# Altium schematic symbol library 零散元件库.SCHLIB: 23 symbols
Pins are listed as number, name and electrical type; pins without a type are passive.

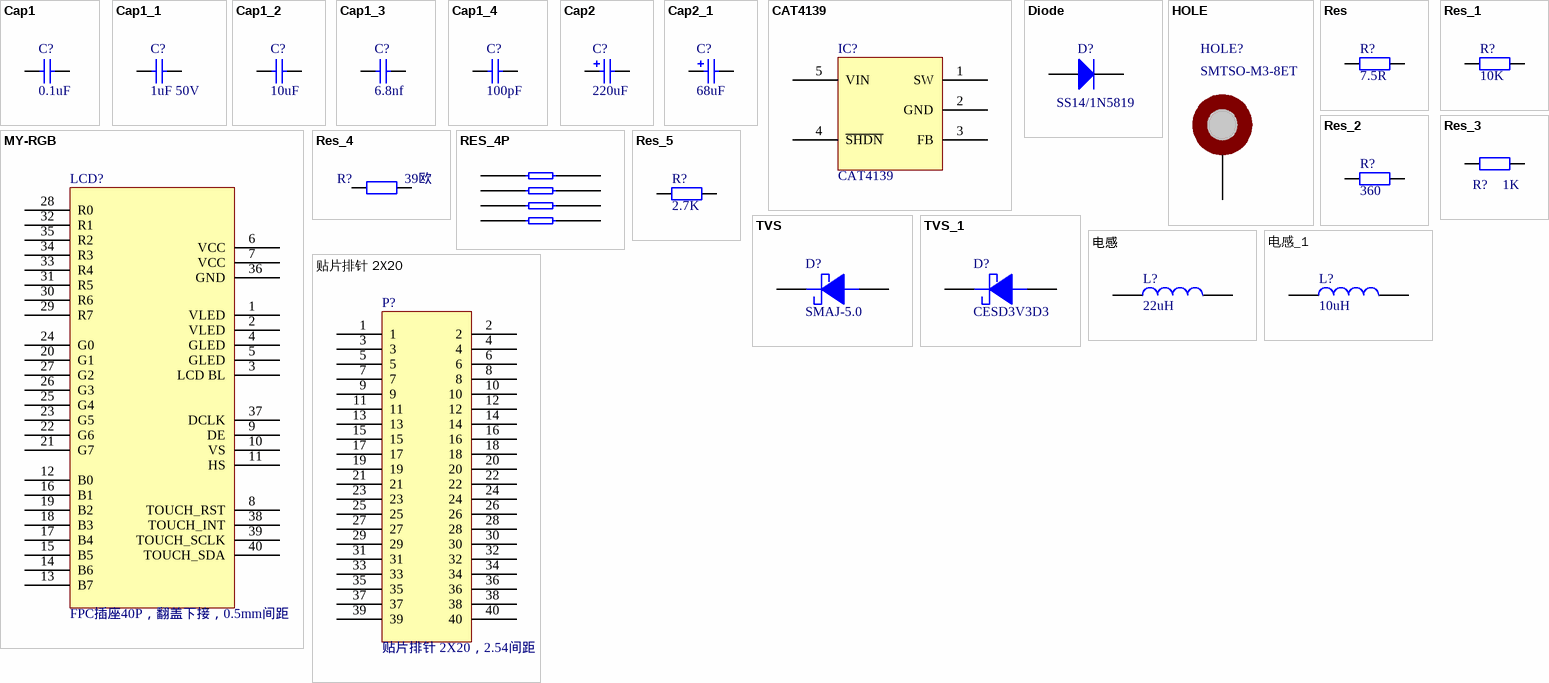
[diagram p0: symbols Cap1 to 贴片排针 2X20]

## Cap1
designator C?, comment 0.1uF
value: 0.1uF
footprint RAD0.2
footprint RAD0.3
footprint RAD0.4
footprint RAD0.5
footprint C0805
footprint RAD0.6
footprint 0603-cap (Chip Capacitor, 2-Leads, Body 1.60x0.80mm, IPC Medium Density)
footprint 0805-cap
pins: 1, 2

## Cap1_1
designator C?, comment 1uF 50V
value: 1uF 50V
footprint RAD0.2
footprint RAD0.3
footprint RAD0.4
footprint RAD0.5
footprint C0805
footprint RAD0.6
footprint 0603-cap (Chip Capacitor, 2-Leads, Body 1.60x0.80mm, IPC Medium Density)
footprint 0805-cap
pins: 1, 2

## Cap1_2
designator C?, comment 10uF
value: 10uF
footprint RAD0.2
footprint RAD0.3
footprint RAD0.4
footprint RAD0.5
footprint C0805
footprint RAD0.6
footprint 0603-cap (Chip Capacitor, 2-Leads, Body 1.60x0.80mm, IPC Medium Density)
footprint 0805-cap
pins: 1, 2

## Cap1_3
designator C?, comment 6.8nf
value: 6.8nf
footprint RAD0.2
footprint RAD0.3
footprint RAD0.4
footprint RAD0.5
footprint C0805
footprint RAD0.6
footprint 0603-cap (Chip Capacitor, 2-Leads, Body 1.60x0.80mm, IPC Medium Density)
footprint 0805-cap
pins: 1, 2

## Cap1_4
designator C?, comment 100pF
value: 100pF
footprint RAD0.2
footprint RAD0.3
footprint RAD0.4
footprint RAD0.5
footprint C0805
footprint RAD0.6
footprint 0603-cap (Chip Capacitor, 2-Leads, Body 1.60x0.80mm, IPC Medium Density)
footprint 0805-cap
pins: 1, 2

## Cap2
designator C?, comment 220uF
value: 220uF
footprint RB1
footprint RB2
footprint RB4
footprint RB5
footprint RB6
footprint RB3
footprint 6032
footprint 3216
footprint 7X4mm
footprint CX-36mm
footprint RB7
footprint 1206-钽电容
footprint 1210-钽电容
footprint 贴片铝电解电容-6.3X5.4 (Aluminum Electrolytic Capacitor, Body 6.60x6.60x5.40mm, IPC Low Density)
pins: 1, 2

## Cap2_1
designator C?, comment 68uF
value: 68uF
footprint RB1
footprint RB2
footprint RB4
footprint RB5
footprint RB6
footprint RB3
footprint 6032
footprint 3216
footprint 7X4mm
footprint CX-36mm
footprint RB7
footprint 1206-钽电容
footprint 1210-钽电容
footprint 贴片铝电解电容-6.3X5.4 (Aluminum Electrolytic Capacitor, Body 6.60x6.60x5.40mm, IPC Low Density)
pins: 1, 2

## CAT4139
designator IC?
footprint SOT23-5P (SOT23, 5-Leads, Body 2.90x2.80mm, Pitch 0.95mm, IPC Medium Density)
pins: 1 SW, 2 GND, 3 FB, 4 ~{SHDN}, 5 VIN

## Diode
designator D?, comment SS14/1N5819
footprint D1206
footprint D1812
footprint DIODE0.7
footprint DIODEV
footprint SS56
footprint SOD323 (SODFL, 2-Leads, Body 1.30x2.60mm, IPC Medium Density)
footprint SMB/DO-214AA
footprint SMA/DO-214AC
pins: 1 A, 2 K

## HOLE
designator HOLE?, comment SMTSO-M3-8ET
footprint HOLE
footprint SMTSO-M3
pins: 1

## MY-RGB
designator LCD?, comment FPC插座40P，翻盖下接，0.5mm间距
footprint FPC40P-0.5MM
footprint fpc40p-0.5-mirror
pins: 1 VLED, 2 VLED, 3 LCD BL, 4 GLED, 5 GLED, 6 VCC, 7 VCC, 8 TOUCH_RST, 9 DE, 10 VS, 11 HS, 12 B0, 13 B7, 14 B6, 15 B5, 16 B1, 17 B4, 18 B3, 19 B2, 20 G1, 21 G7, 22 G6, 23 G5, 24 G0, 25 G4, 26 G3, 27 G2, 28 R0, 29 R7, 30 R6, 31 R5, 32 R1, 33 R4, 34 R3, 35 R2, 36 GND, 37 DCLK, 38 TOUCH_INT, 39 TOUCH_SCLK, 40 TOUCH_SDA

## Res
designator R?, comment 7.5R
value: 7.5R
footprint AXIAL0.4
footprint 0805 (Chip Resistor, 2-Leads, Body 2.0x1.3mm, IPC Medium Density)
footprint AXIAL0.8
footprint 2512
footprint AXIAL0.5
footprint AXIAL0.6
footprint 0603-res
footprint 0805-res
pins: 1, 2

## Res_1
designator R?, comment 10K
value: 10K
footprint AXIAL0.4
footprint 0805 (Chip Resistor, 2-Leads, Body 2.0x1.3mm, IPC Medium Density)
footprint AXIAL0.8
footprint 2512
footprint AXIAL0.5
footprint AXIAL0.6
footprint 0603-res
footprint 0805-res
pins: 1, 2

## Res_2
designator R?, comment 360
value: 360
footprint AXIAL0.4
footprint 0805 (Chip Resistor, 2-Leads, Body 2.0x1.3mm, IPC Medium Density)
footprint AXIAL0.8
footprint 2512
footprint AXIAL0.5
footprint AXIAL0.6
footprint 0603-res
footprint 0805-res
pins: 1, 2

## Res_3
designator R?, comment 1K
value: 1K
footprint AXIAL0.4
footprint 0805 (Chip Resistor, 2-Leads, Body 2.0x1.3mm, IPC Medium Density)
footprint AXIAL0.8
footprint 2512
footprint AXIAL0.5
footprint AXIAL0.6
footprint 0603-res
footprint 0805-res
pins: 1, 2

## Res_4
designator R?, comment 39欧
value: 39欧
footprint AXIAL0.4
footprint 0805 (Chip Resistor, 2-Leads, Body 2.0x1.3mm, IPC Medium Density)
footprint AXIAL0.8
footprint 2512
footprint AXIAL0.5
footprint AXIAL0.6
footprint 0603-res
footprint 0805-res
pins: 1, 2

## RES_4P
designator RP?, comment 120R排阻  (value not drawn)
footprint 0603_4P
pins: 1, 2, 3, 4, 5, 6, 7, 8

## Res_5
designator R?, comment 2.7K
value: 2.7K
footprint AXIAL0.4
footprint 0805 (Chip Resistor, 2-Leads, Body 2.0x1.3mm, IPC Medium Density)
footprint AXIAL0.8
footprint 2512
footprint AXIAL0.5
footprint AXIAL0.6
footprint 0603-res
footprint 0805-res
pins: 1, 2

## TVS
designator D?, comment SMAJ-5.0
footprint SOD323 (SODFL, 2-Leads, Body 1.30x2.60mm, IPC Medium Density)
footprint SMA/DO-214AC
footprint SMB/DO-214AA
pins: 1 +, 2 -

## TVS_1
designator D?, comment CESD3V3D3
footprint SOD323 (SODFL, 2-Leads, Body 1.30x2.60mm, IPC Medium Density)
footprint SMA/DO-214AC
footprint SMB/DO-214AA
pins: 1 +, 2 -

## 电感
designator L?, comment 22uH
footprint AXIAL0.5
footprint 0805 (Chip Resistor, 2-Leads, Body 2.0x1.3mm, IPC Medium Density)
footprint AXIAL0.7
footprint 7257
footprint L12.6
footprint 1210
footprint CDRH104R
footprint CDRH4D28
footprint 0603-res
footprint HC0850
footprint TDK-SLF7032 (Precision Wire Wound Inductor, 2-Leads, Body 7.00x7.00mm, IPC Medium Density)
pins: 1, 2

## 电感_1
designator L?, comment 10uH
footprint AXIAL0.5
footprint 0805 (Chip Resistor, 2-Leads, Body 2.0x1.3mm, IPC Medium Density)
footprint AXIAL0.7
footprint 7257
footprint L12.6
footprint 1210
footprint CDRH104R
footprint CDRH4D28
footprint 0603-res
footprint HC0850
footprint TDK-SLF7032 (Precision Wire Wound Inductor, 2-Leads, Body 7.00x7.00mm, IPC Medium Density)
pins: 1, 2

## 贴片排针 2X20
designator P?, comment 贴片排针 2X20，2.54间距
footprint 贴片双排针2.54-20x2
pins: 1, 2, 3, 4, 5, 6, 7, 8, 9, 10, 11, 12, 13, 14, 15, 16, 17, 18, 19, 20, 21, 22, 23, 24, 25, 26, 27, 28, 29, 30, 31, 32, 33, 34, 35, 36, 37, 38, 39, 40